# EAGLE library part HD3SS3412RUAT (library HD3SS3412RUAT)
TEXAS INSTRUMENTS - HD3SS3412RUAT - PCI & PCIe Device, PCI Express Switch, PCIe 3.0, 3V to 3.6V Supply, WQFN-42 Source: Datasheet <https://www.ti.com/lit/ds/symlink/hd3ss3412.pdf?ts=1621832919888&ref_url=https%3A%2F%2Fwww.ti.com%2Fstore%2Fti%2Fen%2Fp%2Fproduct%2F%3Fp%3DHD3SS3412RUAT>
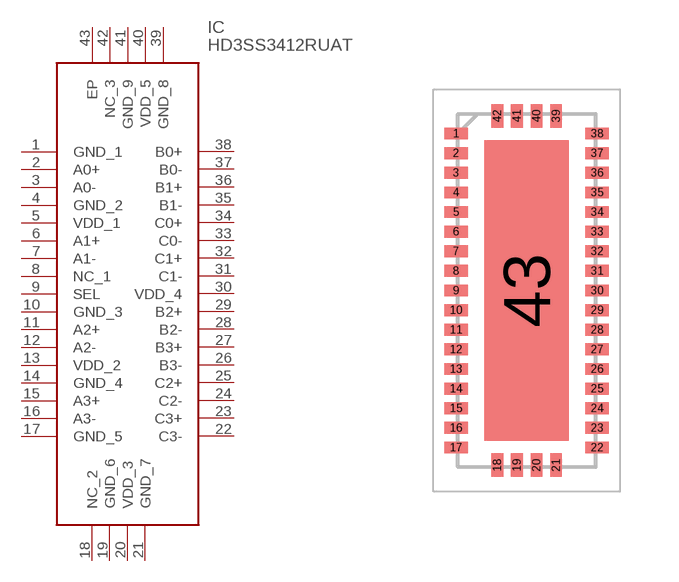
[diagram p0: symbol with the pads of QFN50P350X900X80-43N; footprint QFN50P350X900X80-43N]

Designator prefix IC

## HD3SS3412RUAT (Arrow_Part_Number: HD3SS3412RUAT; Arrow_Price-Stock: https://www.arrow.com/en/products/hd3ss3412ruat/texas-instruments?region=nac; Description: TEXAS INSTRUMENTS - HD3SS3412RUAT - PCI & PCIe Device, PCI Express Switch, PCIe 3.0, 3V to 3.6V Supply, WQFN-42; Height: 0.8mm; Manufacturer_Name: Texas Instruments; Manufacturer_Part_Number: HD3SS3412RUAT; Mouser_Part_Number: 595-HD3SS3412RUAT; Mouser_Price-Stock: https://www.mouser.co.uk/ProductDetail/Texas-Instruments/HD3SS3412RUAT?qs=0gJBXdIUCJkDf1SjbdLJIQ%3D%3D)  [QFN50P350X900X80-43N]
1  GND_1
2  A0+
3  A0-
4  GND_2
5  VDD_1
6  A1+
7  A1-
8  NC_1
9  SEL
10  GND_3
11  A2+
12  A2-
13  VDD_2
14  GND_4
15  A3+
16  A3-
17  GND_5
18  NC_2
19  GND_6
20  VDD_3
21  GND_7
22  C3-
23  C3+
24  C2-
25  C2+
26  B3-
27  B3+
28  B2-
29  B2+
30  VDD_4
31  C1-
32  C1+
33  C0-
34  C0+
35  B1-
36  B1+
37  B0-
38  B0+
39  GND_8
40  VDD_5
41  GND_9
42  NC_3
43  EP

## Footprint QFN50P350X900X80-43N (pad centres in mm)
RUA0042A
smd 0.6 x 0.3: 1 -1.8,4; 2 -1.8,3.5; 3 -1.8,3; 4 -1.8,2.5; 5 -1.8,2; 6 -1.8,1.5; 7 -1.8,1; 8 -1.8,0.5; 9 -1.8,0; 10 -1.8,-0.5; 11 -1.8,-1; 12 -1.8,-1.5; 13 -1.8,-2; 14 -1.8,-2.5; 15 -1.8,-3; 16 -1.8,-3.5; 17 -1.8,-4; 22 1.8,-4; 23 1.8,-3.5; 24 1.8,-3; 25 1.8,-2.5; 26 1.8,-2; 27 1.8,-1.5; 28 1.8,-1; 29 1.8,-0.5; 30 1.8,0; 31 1.8,0.5; 32 1.8,1; 33 1.8,1.5; 34 1.8,2; 35 1.8,2.5; 36 1.8,3; 37 1.8,3.5; 38 1.8,4
smd 0.3 x 0.6: 18 -0.75,-4.45; 19 -0.25,-4.45; 20 0.25,-4.45; 21 0.75,-4.45; 39 0.75,4.45; 40 0.25,4.45; 41 -0.25,4.45; 42 -0.75,4.45
smd 2.15 x 7.65: 43 0,0